# EAGLE library part BGS12WN6E6327XTSA1 (library BGS12WN6E6327XTSA1)
IC RF SWITCH SPDT 9GHZ TSNP6-10 Source: Datasheet <https://www.infineon.com/dgdl/Infineon-BGS12WN6-DataSheet-v01_00-EN.pdf?fileId=5546d4626b2d8e69016b89d2b3334727>
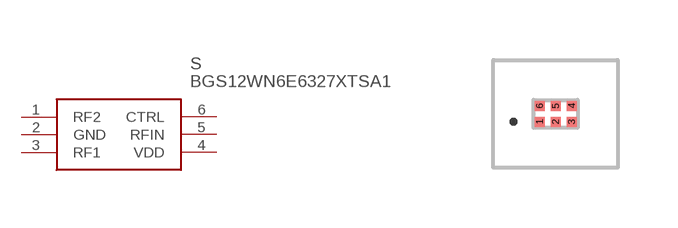
[diagram p0: symbol with the pads of BGS12WN6E6327XTSA1; footprint BGS12WN6E6327XTSA1]

Designator prefix S

## BGS12WN6E6327XTSA1 (Arrow_Part_Number: BGS12WN6E6327XTSA1; Arrow_Price-Stock: https://www.arrow.com/en/products/bgs12wn6e6327xtsa1/infineon-technologies-ag.html?utm_currency=USD&region=nac; Description: IC RF SWITCH SPDT 9GHZ TSNP6-10; Height: 0.4mm; Manufacturer_Name: Infineon; Manufacturer_Part_Number: BGS12WN6E6327XTSA1; Mouser_Part_Number: 726-BGS12WN6E6327XTS; Mouser_Price-Stock: https://www.mouser.co.uk/ProductDetail/Infineon-Technologies/BGS12WN6E6327XTSA1?qs=unwgFEO1A6uim3e4emYLzg%3D%3D)  [BGS12WN6E6327XTSA1]
1  RF2
2  GND
3  RF1
4  VDD
5  RFIN
6  CTRL

## Footprint BGS12WN6E6327XTSA1 (pad centres in mm)
BGS12WN6E6327XTSA1-1
smd 0.25 x 0.25: 1 -0.4,-0.2; 2 0,-0.2; 3 0.4,-0.2; 4 0.4,0.2; 5 0,0.2; 6 -0.4,0.2